# EAGLE library part MCP3424 (library mark_2)
Analog-to-Digital Converter
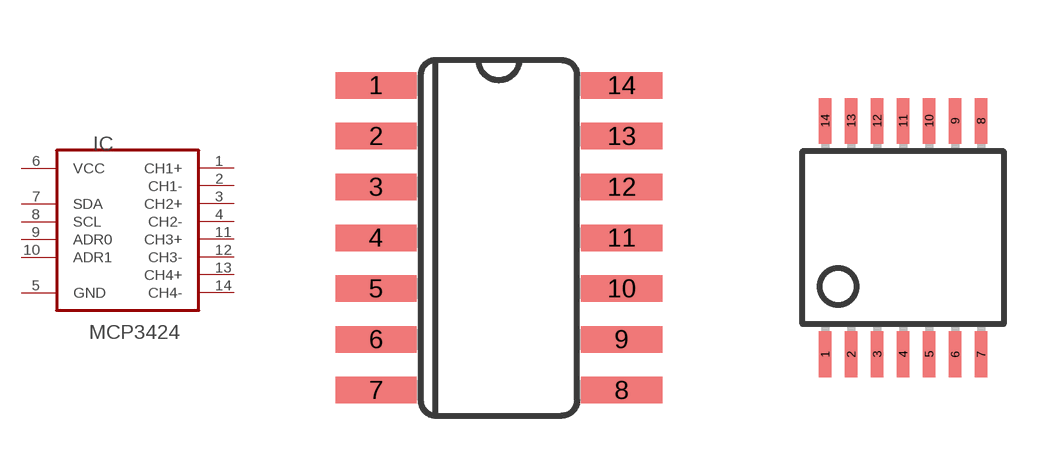
[diagram p5: symbol with the pads of SO14; footprints SO14, TSSOP14]

Designator prefix IC

## MCP3424 (MPN: MCP3424-E/SL; OC_FARNELL: 1630424; OC_NEWARK: 54M4871; PACKAGE: SOIC-14; SUPPLIER: Microchip)  [SO14]
1  CH1+  in
2  CH1-  in
3  CH2+  in
4  CH2-  in
5  GND  pwr
6  VCC  pwr
7  SDA
8  SCL  in
9  ADR0  in
10  ADR1  in
11  CH3+  in
12  CH3-  in
13  CH4+  in
14  CH4-  in

## MCP3424T  [TSSOP14]
Pads as for SO14

## Footprint SO14 (pad centres in mm)
Small Outline package 150 mil
smd 2.032 x 0.66: 1 -3.073,3.81; 2 -3.073,2.54; 3 -3.073,1.27; 4 -3.073,0; 5 -3.073,-1.27; 6 -3.073,-2.54; 7 -3.073,-3.81; 8 3.073,-3.81; 9 3.073,-2.54; 10 3.073,-1.27; 11 3.073,0; 12 3.073,1.27; 13 3.073,2.54; 14 3.073,3.81

## Footprint TSSOP14 (pad centres in mm)
Thin Shrink Small Outline Plastic 14
smd 0.305 x 1.143: 1 -1.95,-2.918; 2 -1.3,-2.918; 3 -0.65,-2.918; 4 0,-2.918; 5 0.65,-2.918; 6 1.3,-2.918; 7 1.95,-2.918; 8 1.95,2.918; 9 1.3,2.918; 10 0.65,2.918; 11 0,2.918; 12 -0.65,2.918; 13 -1.3,2.918; 14 -1.95,2.918